# Altium schematic symbol library Crystal_and_Oscillator_Components.SchLib: 1 symbol
Pins are listed as number, name and electrical type; pins without a type are passive.

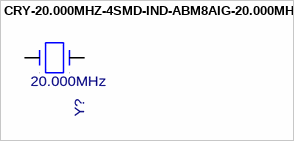
[diagram p0: symbol CRY-20.000MHZ-4SMD-IND-ABM8AIG-20.000MHZ]

## CRY-20.000MHZ-4SMD-IND-ABM8AIG-20.000MHZ
designator Y?  value 20.000MHz  (hidden comment: CRY-20.000MHZ-4SMD-IND-ABM8AIG-20.000MHZ)
Crystal, 20.000Mhz, 12pF, Industrial. SMT; MFG: Abracon; MFGPN: ABM8AIG-20.000MHZ-12-2Z-T3; QPN: 125-000812-2006; Temp: 125C
footprint CRY-4SMD-ABM8AIG-20.000MHZ
pins: 1, 2, 3, 4